# EAGLE library part ATTINY24 (library custom)
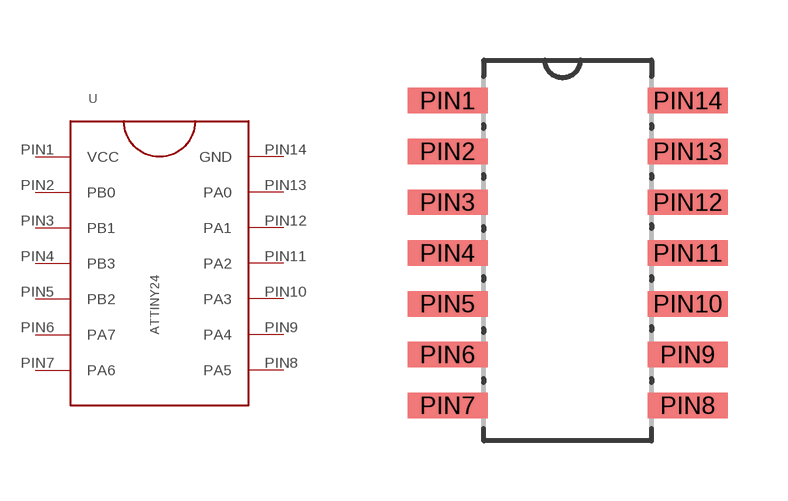
[diagram p1: symbol with the pads of SOIC14; footprint SOIC14]

Designator prefix -

## ATTINY24  [SOIC14]
PIN1  VCC  pwr
PIN2  PB0
PIN3  PB1
PIN4  PB3
PIN5  PB2
PIN6  PA7
PIN7  PA6
PIN8  PA5
PIN9  PA4
PIN10  PA3
PIN11  PA2
PIN12  PA1
PIN13  PA0
PIN14  GND  pwr

## Footprint SOIC14 (pad centres in mm)
smd 2 x 0.635: PIN1 -3.05,3.6; PIN2 -3.05,2.33; PIN3 -3.05,1.06; PIN4 -3.05,-0.21; PIN5 -3.05,-1.48; PIN6 -3.05,-2.75; PIN7 -3.05,-4.02; PIN8 2.957,-4.02; PIN9 2.957,-2.75; PIN10 2.957,-1.48; PIN11 2.957,-0.21; PIN12 2.957,1.06; PIN13 2.957,2.33; PIN14 2.957,3.6